# Altium footprint library Capacitors_rus.PCBLIB: 349 footprints (part 15 of 22)
Each footprint in its own frame and in the unit in brackets; x right, y up, seen from the top. Pads: shape width x height; smd on the part's side, far side on the other; paste and mask are expansions set on the pad; w line width, h text height; cw(c..) or ccw(c..) is an arc to the next point about the centre after c.
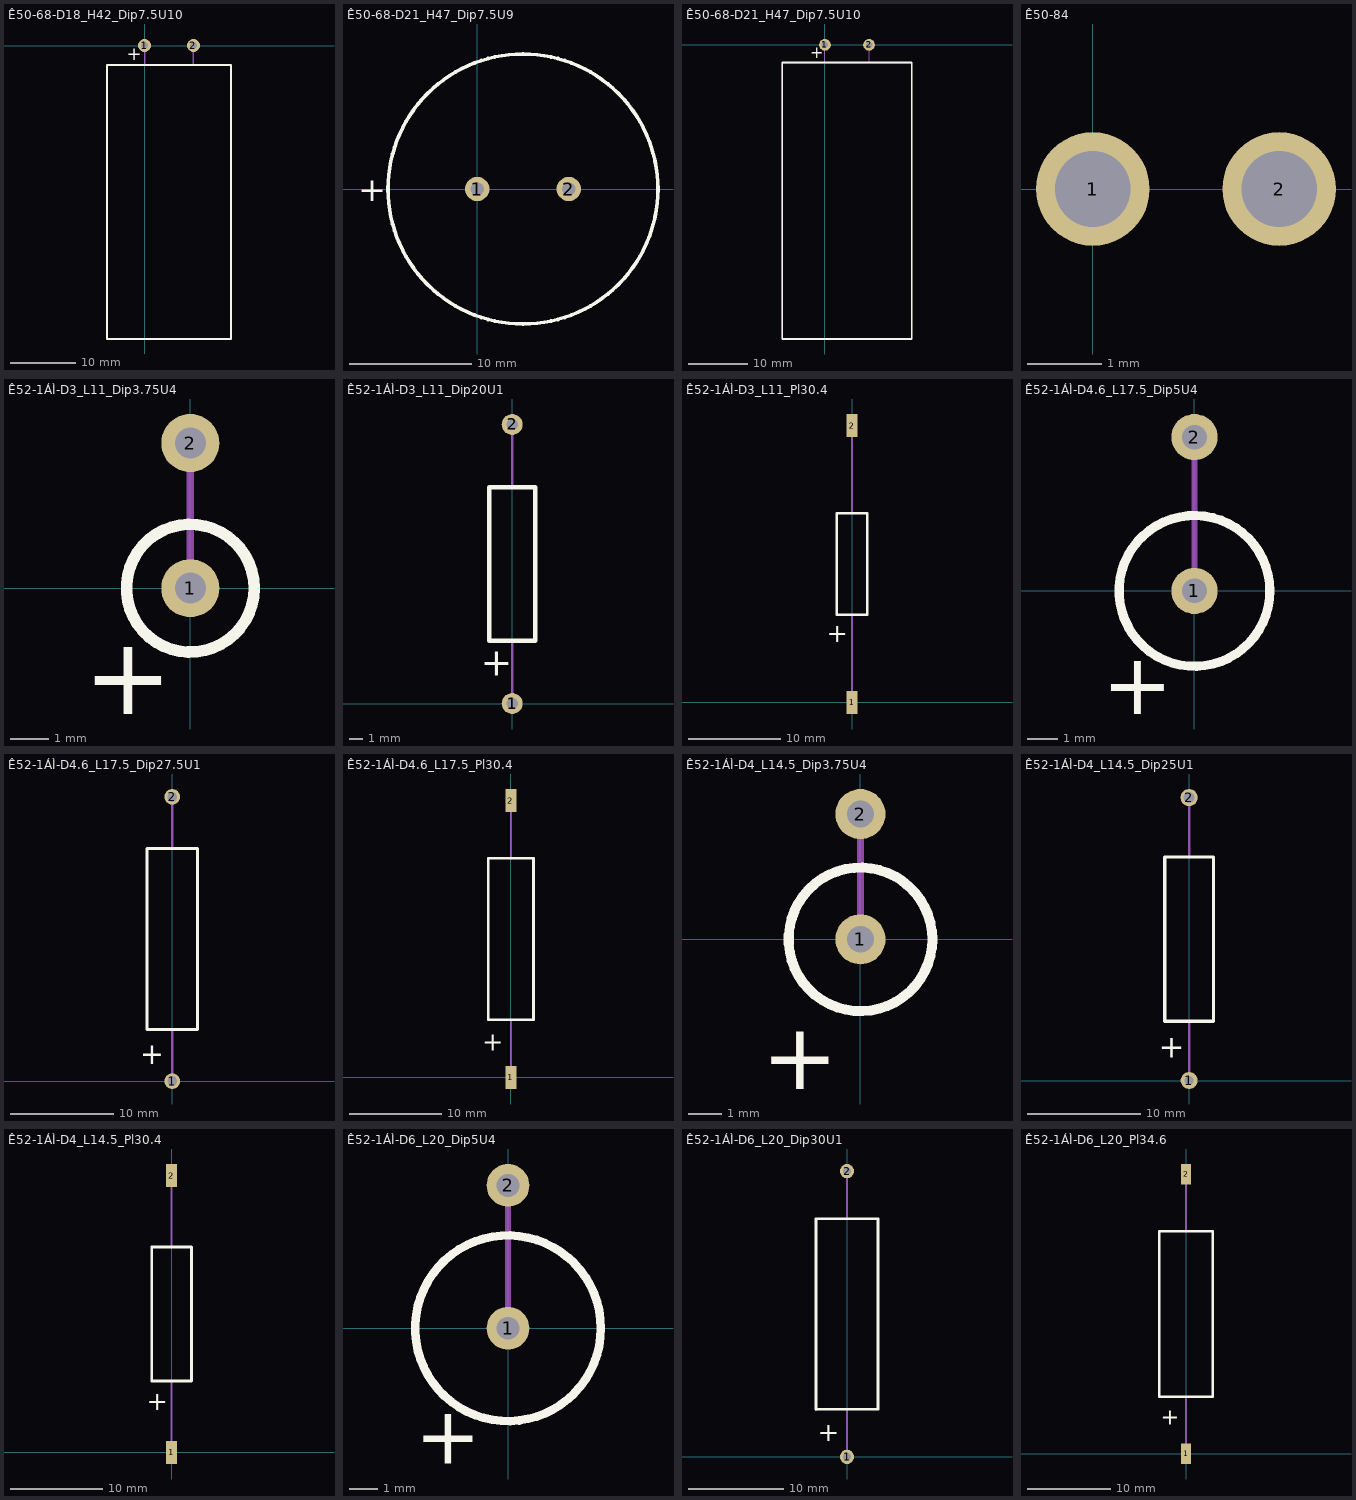
[diagram p14: the footprints below, top view; thin cyan lines are the x and y axes]

## Ê50-68-D18_H42_Dip7.5U10 [mm]
height 18
pads (2):
  round 2 hole 1.1: 1(0,0) 2(7.5,0)
Top Overlay:
  lines w0.3: -5.75,-45 13.25,-45 13.25,-3 -5.75,-3 -5.75,-45
  text "+" at -2.75,-2.25 h2
Mechanical 1:
  lines w0.2: 0,-3 0,0 ; 7.5,-3.02 7.5,0 ; -5.75,-45 13.25,-45 13.25,-3 -5.75,-3 -5.75,-45
  text "+" at -0.5,-4.5 h1.5
  text ".Designator" at 0.7,-24.45 h1.5

## Ê50-68-D21_H47_Dip7.5U9 [mm]
height 47
pads (2):
  round 2 hole 1.1: 1(0,0) 2(7.5,0)
Top Overlay:
  circle w0.3: c3.75,0 r11.05
  text "+" at -9.75,-1 h2
Mechanical 1:
  circle w0.2: c3.75,0 r11.05
  text ".Designator" at 1.45,-0.4 h1.5
  text "+" at -1.75,-0.5 h1.5

## Ê50-68-D21_H47_Dip7.5U10 [mm]
height 21
pads (2):
  round 2 hole 1.1: 1(0,0) 2(7.5,0)
Top Overlay:
  lines w0.3: -7.25,-50 14.75,-50 14.75,-3 -7.25,-3 -7.25,-50
  text "+" at -2.5,-2.25 h2
Mechanical 1:
  lines w0.2: 0,-3 0,0 ; 7.5,-3.02 7.5,0 ; -7.25,-50 14.75,-50 14.75,-3 -7.25,-3 -7.25,-50
  text "+" at -0.25,-4.5 h1.5
  text ".Designator" at 0.6,-28.2 h1.5

## Ê50-84 [mil]
pads (2):
  round 60 hole 40: 1(0,0) 2(98.43,0)
Mechanical 1:
  text "+" at -39.37,29.53 h59.06
  text ".Designator" at -1.97,47.24 h59.06

## Ê52-1ÁÌ-D3_L11_Dip3.75U4 [mm]
height 14.5
pads (2):
  round 1.5 hole 0.8: 1(0,0) 2(0,3.75)
Top Overlay:
  circle w0.3: c0,0 r1.65
  text "+" at -2.75,-3.25 h2
Mechanical 1:
  circle w0.2: c0,0 r1.65
  lines w0.2: 0,0 0,3.75
  text "+" at -0.25,-1.5 h1.5
  text ".Designator" at -2.25,-0.8 h1.5

## Ê52-1ÁÌ-D3_L11_Dip20U1 [mm]
height 3.3
pads (2):
  round 1.5 hole 0.8: 1(0,0) 2(0,20)
Top Overlay:
  lines w0.3: -1.65,4.5 1.65,4.5 1.65,15.5 -1.65,15.5 -1.65,4.5
  text "+" at -2.25,2 h2
Mechanical 1:
  lines w0.2: 0,0 0,4.53 ; 0,15.48 0,20 ; -1.65,4.5 1.65,4.5 1.65,15.5 -1.65,15.5 -1.65,4.5
  text "+" at -0.25,5 h1.5
  text ".Designator" at 0.2,6.8 h1.5

## Ê52-1ÁÌ-D3_L11_Pl30.4 [mm]
height 3.3
pads (2):
  rect 1.2x2.5 smd: 1(0,0) 2(0,30)
Top Overlay:
  lines w0.3: -1.65,9.5 -1.65,20.5 1.65,20.5 1.65,9.5 -1.65,9.5
  text "+" at -2.75,6.5 h2
Mechanical 1:
  lines w0.2: 0,-0.2 0,9.53 ; 0,20.48 0,30.2 ; -1.65,9.5 -1.65,20.5 1.65,20.5 1.65,9.5 -1.65,9.5
  text "+" at -0.25,10.25 h1.5
  text ".Designator" at 0.35,12.4 h1.5

## Ê52-1ÁÌ-D4.6_L17.5_Dip5U4 [mm]
height 21
pads (2):
  round 1.5 hole 0.8: 1(0,0) 2(0,5)
Top Overlay:
  circle w0.3: c0,0 r2.45
  text "+" at -3,-4 h2
Mechanical 1:
  circle w0.2: c0,0 r2.45
  lines w0.2: 0,0 0,5
  text ".Designator" at -3.3,-1.986 h1.5
  text "+" at -1,-1.75 h1.5

## Ê52-1ÁÌ-D4.6_L17.5_Dip27.5U1 [mil]
height 192.91
pads (2):
  round 60 hole 38: 1(0,0) 2(0,1082.68)
Top Overlay:
  lines w11.81: -96.46,196.85 -96.46,885.83 96.46,885.83 96.46,196.85 -96.46,196.85
  text "+" at -121.27,64.75 h78.74
Mechanical 1:
  lines w7.87: 0,0 0,198.03 ; 0,885.04 0,1082.68 ; -96.46,196.85 -96.46,885.83 96.46,885.83 96.46,196.85 -96.46,196.85
  text "+" at -19.68,226.38 h59.06
  text ".Designator" at 9.84,427.17 h59.06

## Ê52-1ÁÌ-D4.6_L17.5_Pl30.4 [mm]
height 4.9
pads (2):
  rect 1.2x2.5 smd: 1(0,0) 2(0,30)
Top Overlay:
  lines w0.3: -2.45,6.25 -2.45,23.75 2.45,23.75 2.45,6.25 -2.45,6.25
  text "+" at -3.08,2.895 h2
Mechanical 1:
  lines w0.2: 0,-0.2 0,6.28 ; 0,23.73 0,30.2 ; -2.45,6.25 -2.45,23.75 2.45,23.75 2.45,6.25 -2.45,6.25
  text ".Designator" at 0.3,11.9 h1.5
  text "+" at -0.25,6.75 h1.5

## Ê52-1ÁÌ-D4_L14.5_Dip3.75U4 [mm]
height 18
pads (2):
  round 1.5 hole 0.8: 1(0,0) 2(0,3.75)
Top Overlay:
  circle w0.3: c0,0 r2.15
  text "+" at -2.955,-4.48 h2
Mechanical 1:
  circle w0.2: c0,0 r2.15
  lines w0.2: 0,0 0,3.75
  text "+" at -0.25,-1.75 h1.5
  text ".Designator" at -2.5,-1.35 h1.5

## Ê52-1ÁÌ-D4_L14.5_Dip25U1 [mm]
height 4.3
pads (2):
  round 1.5 hole 0.8 unplated: 1(0,0)
  round 1.524 hole 0.965: 2(0,25)
Top Overlay:
  lines w0.3: 2.15,5.24 -2.15,5.25 -2.15,19.75 2.15,19.75 2.15,5.25
  text "+" at -2.705,2.02 h2
Mechanical 1:
  lines w0.2: 0,0 0,5.27 ; 0,19.73 0,25 ; 2.15,19.75 2.15,5.25 -2.15,5.25 -2.15,19.75 2.15,19.76
  text "+" at -0.25,6 h1.5
  text ".Designator" at 0.4,9.1 h1.5

## Ê52-1ÁÌ-D4_L14.5_Pl30.4 [mm]
height 4.3
pads (2):
  rect 1.2x2.5 smd: 1(0,0) 2(0,30)
Top Overlay:
  lines w0.3: 2.15,7.74 -2.15,7.75 -2.15,22.25 2.15,22.25 2.15,7.75
  text "+" at -2.705,4.57 h2
Mechanical 1:
  lines w0.2: 0,-0.2 0,7.78 ; 0,22.23 0,30.2 ; 2.15,22.25 2.15,7.75 -2.15,7.75 -2.15,22.25 2.15,22.26
  text ".Designator" at 0.4,11.15 h1.5
  text "+" at -0.728,7.743 h1.5

## Ê52-1ÁÌ-D6_L20_Dip5U4 [mm]
height 24.5
pads (2):
  round 1.5 hole 0.8: 1(0,0) 2(0,5)
Top Overlay:
  circle w0.3: c0,0 r3.25
  text "+" at -3.25,-4.75 h2
Mechanical 1:
  circle w0.2: c0,0 r3.25
  lines w0.2: 0,0 0,5
  text ".Designator" at -3.7,-2.05 h1.5
  text "+" at -2.678,-1.557 h1.5

## Ê52-1ÁÌ-D6_L20_Dip30U1 [mm]
height 6.5
pads (2):
  round 1.5 hole 0.8: 1(0,0) 2(0,30)
Top Overlay:
  lines w0.3: -3.25,4.98 -3.25,25 3.25,25 3.25,5 -3.25,5
  text "+" at -3.08,1.645 h2
Mechanical 1:
  lines w0.2: 0,0 0,5.03 ; 0,24.97 0,30 ; -3.25,5 3.25,5 3.25,25 -3.25,25 -3.25,5
  text ".Designator" at 0.5,11.35 h1.5
  text "+" at -0.25,6 h1.5

## Ê52-1ÁÌ-D6_L20_Pl34.6 [mm]
height 6.5
pads (2):
  rect 1.2x2.5 smd: 1(0,0) 2(0,33.75)
Top Overlay:
  lines w0.3: -3.25,6.855 -3.25,26.875 3.25,26.875 3.25,6.875 -3.25,6.875
  text "+" at -3.08,3.52 h2
Mechanical 1:
  lines w0.2: 0,-0.45 0,6.65 ; 0,26.85 0,34.175 ; -3.25,6.875 3.25,6.875 3.25,26.875 -3.25,26.875 -3.25,6.875
  text "+" at -0.5,7.5 h1.5
  text ".Designator" at 0.1,14 h1.5